# Altium schematic symbol library C0805C224K5RACAUTO7210.SchLib: 2 symbols
Pins are listed as number, name and electrical type; pins without a type are passive.

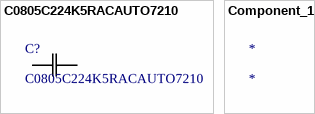
[diagram p0: symbols C0805C224K5RACAUTO7210 to Component_1]

## C0805C224K5RACAUTO7210
designator C?
No Description Available; Mfr_Name: Kemet; Type: DEV; Copyright: Copyright (C) 2023 Ultra Librarian. All rights reserved.; Manufacturer_Part_Number: C0805C224K5RACAUTO7210; Digi-Key_Part_Number_1: 399-C0805C224K5RACAUTO7210TR-ND; Digi-Key_Part_Number_2: 399-C0805C224K5RACAUTO7210CT-ND; Digi-Key_Part_Number_3: 399-C0805C224K5RACAUTO7210DKR-ND; RefDes: RefDes
footprint CAPC220145_100N_KEM
pins: 1, 2

## Component_1
designator *